# Altium footprint library Miscellaneous Devices.PcbLib: 155 footprints (part 1 of 10)
Each footprint in its own frame and in the unit in brackets; x right, y up, seen from the top. Pads: shape width x height; smd on the part's side, far side on the other; paste and mask are expansions set on the pad; w line width, h text height; cw(c..) or ccw(c..) is an arc to the next point about the centre after c.
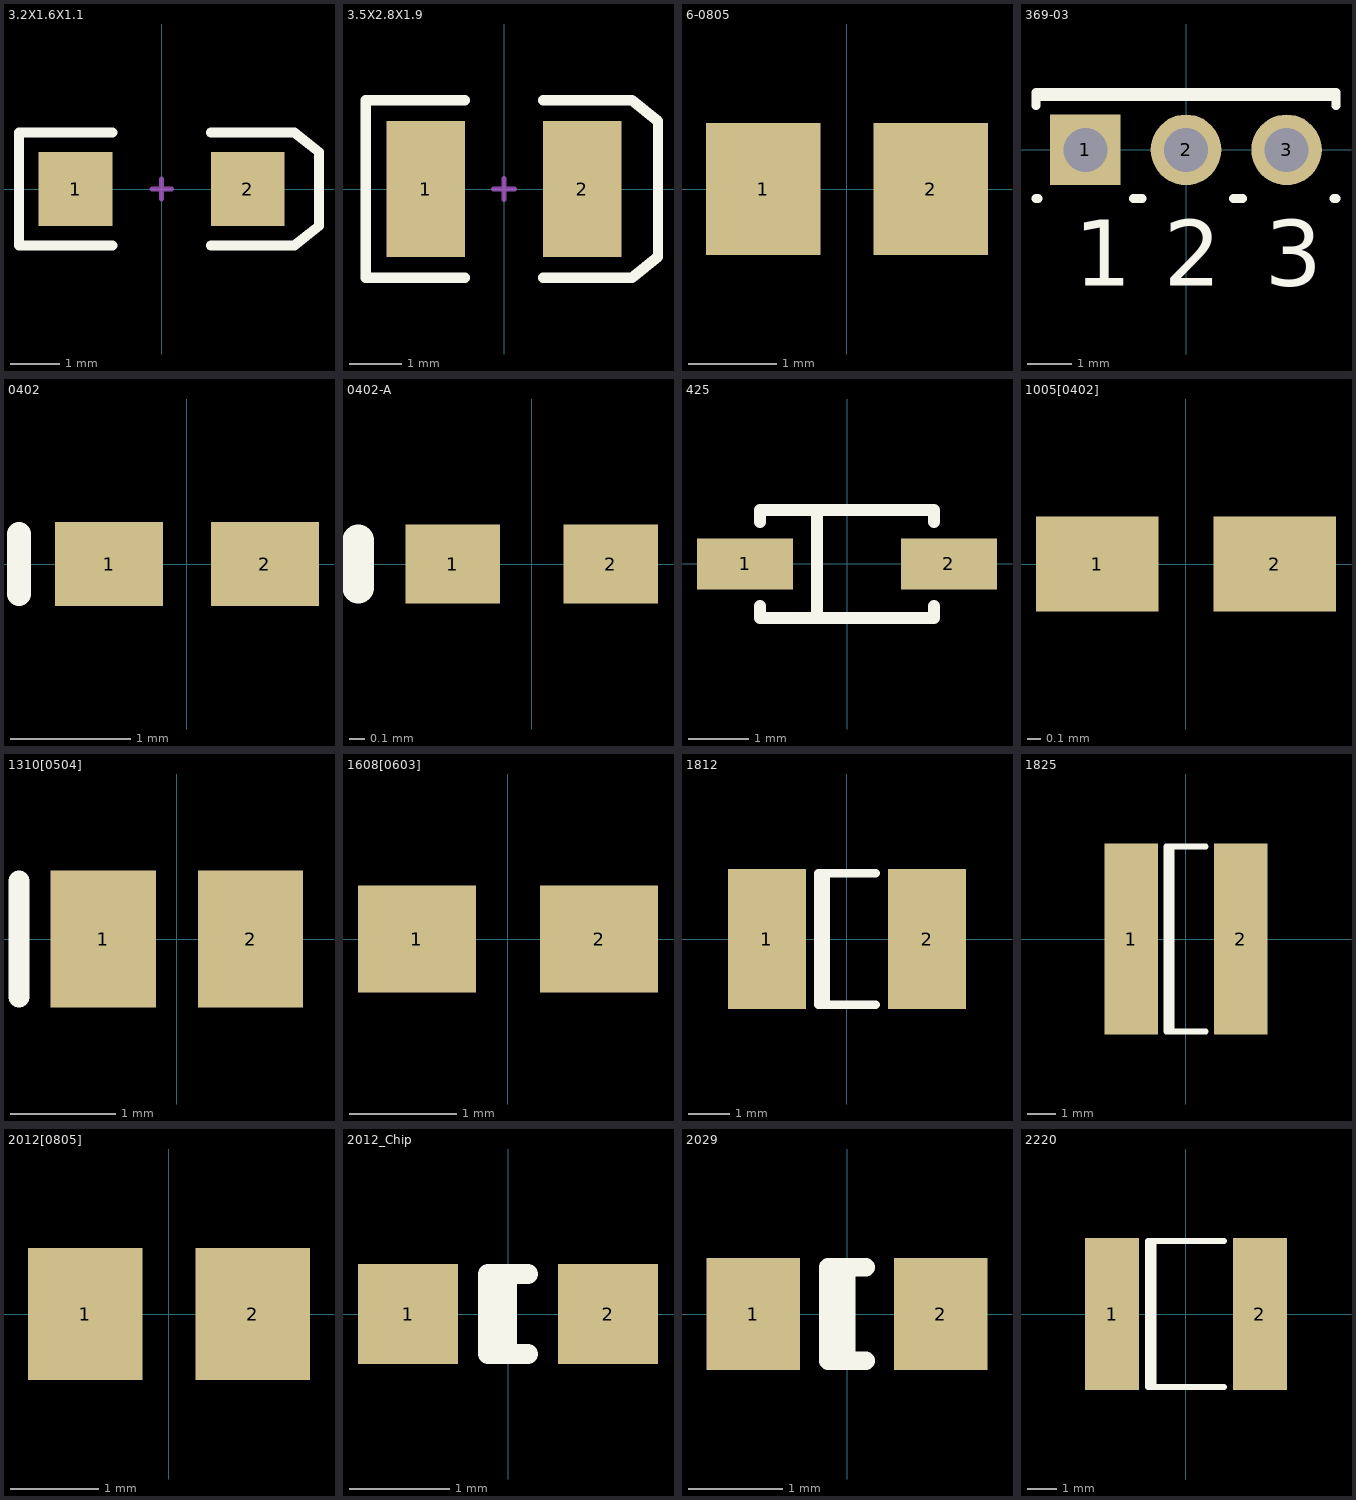
[diagram p0: the footprints below, top view; thin cyan lines are the x and y axes]

## 3.2X1.6X1.1 [mm] "SMT LED; 2 Flat Leads"
height 1.2
pads (2):
  rect 1.5x1.5 smd: 1(-1.75,0) 2(1.75,0)
Top Overlay:
  lines w0.2: -1,-1.15 -2.9,-1.15 -2.9,1.15 -1,1.15 ; 1,-1.15 2.7,-1.15 3.2,-0.75 3.2,0.75 2.7,1.15 1,1.15
Mechanical 1:
  lines w0.1: -0.2,0 0.2,0 ; 0,-0.2 0,0.2

## 3.5X2.8X1.9 [mm] "SM LED; 2 C-Bend Leads; Body 3.5 x 2.8 x 1.9 mm, inc leads (LxWxH typ)"
height 1.9
pads (2):
  rect 1.5x2.6 smd: 1(-1.5,0) 2(1.5,0)
Top Overlay:
  lines w0.2: -0.75,-1.7 -2.65,-1.7 -2.65,1.7 -0.75,1.7 ; 0.75,-1.7 2.45,-1.7 2.95,-1.3 2.95,1.3 2.45,1.7 0.75,1.7
Mechanical 1:
  lines w0.1: -0.2,0 0.2,0 ; 0,-0.2 0,0.2

## 6-0805 [mm] "Chip Resistor; Body 2.0 x 1.3 mm (LxW typ)"
height 0.65
pads (2):
  rect 1.3x1.5 smd: 1(-0.95,0) 2(0.95,0)

## 369-03 [mm] "TO, Thru-Hole, Vertical, Heatsink Mounted; 3 In-Line Leads; Pitch 2.28 mm"
height 9.7
pads (3):
  rect 1.6x1.6 hole 1: 1(-2.28,0)
  round 1.6 hole 1: 2(0,0) 3(2.28,0)
Top Overlay:
  lines w0.2: -3.4,-1.1 -3.35,-1.1 ; -3.4,1 -3.4,1.3 3.4,1.3 3.4,1 ; -3.4,1.21 3.4,1.21 ; -1.19,-1.1 -0.99,-1.1 ; 1.08,-1.1 1.28,-1.1 ; 3.35,-1.1 3.4,-1.1
  text "1" at -2.53,-3.075 h1.5
  text "2" at -0.5,-3.075 h1.5
  text "3" at 1.78,-3.075 h1.5

## 0402 [mm] "Chip Capacitor; Body 1.0 x 0.5 mm (LxW typ)"
height 1.35
pads (2):
  rect 0.9x0.7 smd: 1(-0.65,0) 2(0.65,0)
Top Overlay:
  lines w0.2: -1.4,-0.25 -1.4,0.25

## 0402-A [mm] "Chip Inductor; Body 1 x 0.5 mm (LxW typ)"
height 0.55
pads (2):
  rect 0.6x0.5 smd: 1(-0.5,0) 2(0.5,0)
Top Overlay:
  lines w0.2: -1.1,-0.15 -1.1,0.15

## 425 [mm] "SOD-123; 2 Leads; Body 2.7 x 1.6 mm, (LxW)"
height 1.35
pads (2):
  rect 1.6x0.85 smd: 1(-1.7,0) 2(1.7,0)
Top Overlay:
  lines w0.2: -1.45,-0.7 -1.45,-0.9 1.45,-0.9 1.45,-0.7 ; -1.45,0.7 -1.45,0.9 1.45,0.9 1.45,0.7 ; -0.5,-0.9 -0.5,0.9

## 1005[0402] [mm] "Chip Resistor; Body 1.1 x 0.5 mm (LxW typ)"
height 2.54
pads (2):
  rect 0.9x0.7 smd: 1(-0.65,0) 2(0.65,0)

## 1310[0504] [mm] "Chip Capacitor; Body 1.2 x 1.0 mm (LxW typ)"
height 1.35
pads (2):
  rect 1x1.3 smd: 1(-0.7,0) 2(0.7,0)
Top Overlay:
  lines w0.2: -1.5,-0.55 -1.5,0.55

## 1608[0603] [mm] "Chip Capacitor; Body 1.6 x 0.8 mm (LxW typ)"
height 1.35
pads (2):
  rect 1.1x1 smd: 1(-0.85,0) 2(0.85,0)

## 1812 [mm] "Chip Capacitor; Body 4.5 x 3.2 mm (LxW typ)"
height 1.1
pads (2):
  rect 1.9x3.4 smd: 1(-1.95,0) 2(1.95,0)
Top Overlay:
  lines w0.2: -0.51,-1.6 -0.51,1.6 ; 0.7,-1.6 -0.7,-1.6 -0.7,1.6 0.7,1.6

## 1825 [mm] "Chip Capacitor; Body 4.5 x 6.4 mm (LxW typ)"
height 1.1
pads (2):
  rect 1.9x6.8 smd: 1(-1.95,0) 2(1.95,0)
Top Overlay:
  lines w0.2: -0.51,-3.3 -0.51,3.3 ; 0.7,-3.3 -0.7,-3.3 -0.7,3.3 0.7,3.3

## 2012[0805] [mm] "Chip Resistor; Body 2.0 x 1.3 mm (LxW typ)"
height 2.54
pads (2):
  rect 1.3x1.5 smd: 1(-0.95,0) 2(0.95,0)

## 2012_Chip [mm] "2012 Chip; Chip Inductor; Body 2.0 x 1.2 mm (LxW typ)"
height 0.55
pads (2):
  rect 1x1 smd: 1(-1,0) 2(1,0)
Top Overlay:
  lines w0.2: -0.01,-0.4 -0.01,0.4 ; 0.2,-0.4 -0.2,-0.4 -0.2,0.4 0.2,0.4

## 2029 [mm] "Chip Inductor; Body 2 x 1.2 mm (LxW typ)"
height 0.55
pads (2):
  rect 1x1.2 smd: 1(-1,0) 2(1,0)
Top Overlay:
  lines w0.2: -0.01,-0.5 -0.01,0.5 ; 0.2,-0.5 -0.2,-0.5 -0.2,0.5 0.2,0.5

## 2220 [mm] "Chip Capacitor; Body 5.7 x 5.0 mm (LxW typ)"
height 1.1
pads (2):
  rect 1.85x5.2 smd: 1(-2.525,0) 2(2.525,0)
Top Overlay:
  lines w0.2: -1.11,-2.5 -1.11,2.5 ; 1.3,-2.5 -1.3,-2.5 -1.3,2.5 1.3,2.5